# EAGLE library part 4PDT_RELAY (library DSDEagleLibrary)
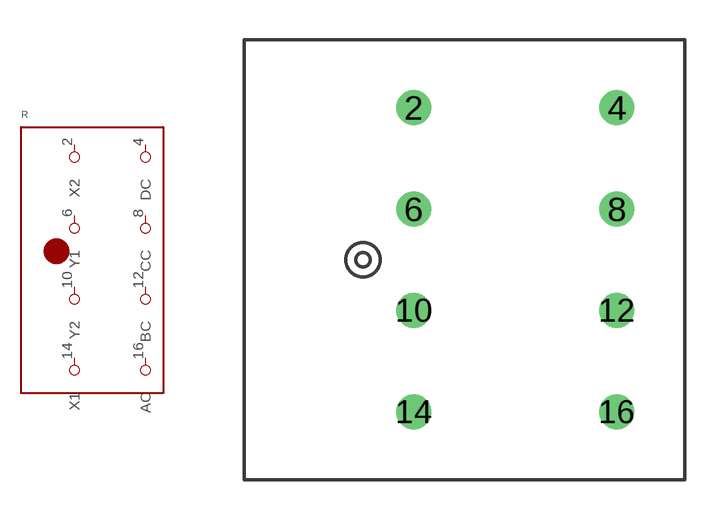
[diagram p33: symbol with the pads of 4PDT_RELAY; footprint 4PDT_RELAY]

Designator prefix R

## 4PDT_RELAY  [4PDT_RELAY]
2  X2
4  DC
6  Y1
8  CC
10  Y2
12  BC
14  X1
16  AC

## Footprint 4PDT_RELAY (pad centres in mm)
drill 0.813: 2 6.35,13.97; 4 13.97,13.97; 6 6.35,10.16; 8 13.97,10.16; 10 6.35,6.35; 12 13.97,6.35; 14 6.35,2.54; 16 13.97,2.54